# EAGLE library part OS202011MA0QN1 (library 2023-11-16_18-53-19_Library)
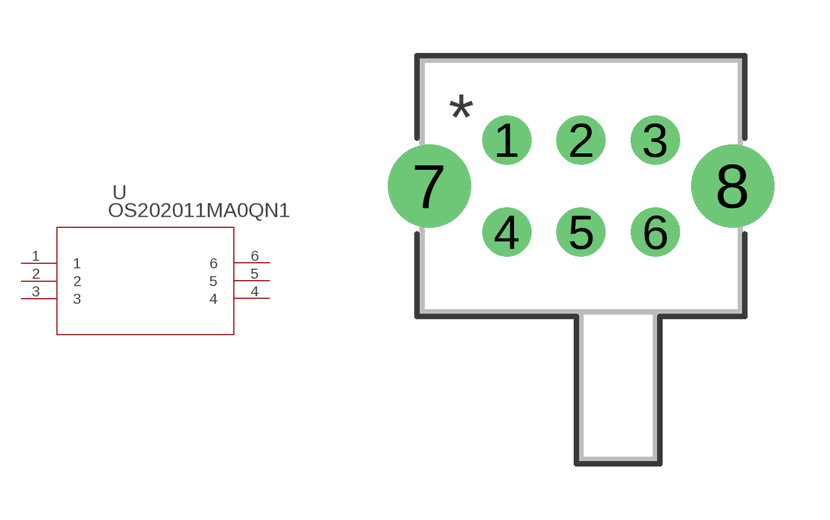
[diagram p0: symbol with the pads of SWITCH_011MA0QN1; footprint SWITCH_011MA0QN1]

Designator prefix U

## OS202011MA0QN1SWITCH_011MA0QN1 (Copyright: Copyright (C) 2023 Ultra Librarian. All rights reserved.; Manufacturer_Part_Number: OS202011MA0QN1; Mfr_Name: C&K Components)  [SWITCH_011MA0QN1]
1  1  pas
2  2  pas
3  3  pas
4  4  pas
5  5  pas
6  6  pas

## Footprint SWITCH_011MA0QN1 (pad centres in mm)
drill 0.813 pad 1.321 round: 1 -4.013,-4.318; 2 -2.007,-4.318; 3 0,-4.318; 4 -4.013,-6.807; 5 -2.007,-6.807; 6 0,-6.807
drill 1.499 pad 2.007 round: 7 -6.107,-5.563; 8 2.093,-5.563